# EAGLE library part 7760 (library HP5082)
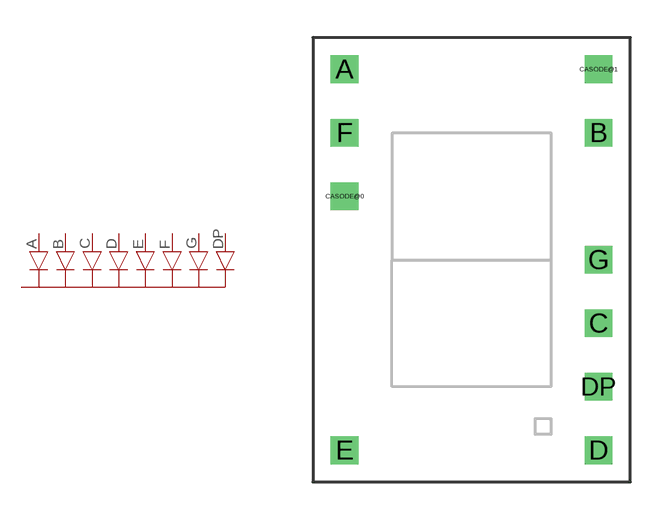
[diagram p0: symbol with the pads of 7760; footprint 7760]

Designator prefix -

## 7760  [7760]
A  A
B  B
C  C
CASODE@0  CASODE
CASODE@1  CASODE
D  D
DP  DP
E  E
F  F
G  G

## Footprint 7760 (pad centres in mm)
drill 0.6 square: A -5.08,7.62; B 5.08,5.08; C 5.08,-2.54; CASODE@0 -5.08,2.54; CASODE@1 5.08,7.62; D 5.08,-7.62; DP 5.08,-5.08; E -5.08,-7.62; F -5.08,5.08; G 5.08,0